# Altium schematic symbol library ScaledModelBoard.SchLib: 15 symbols
Pins are listed as number, name and electrical type; pins without a type are passive.

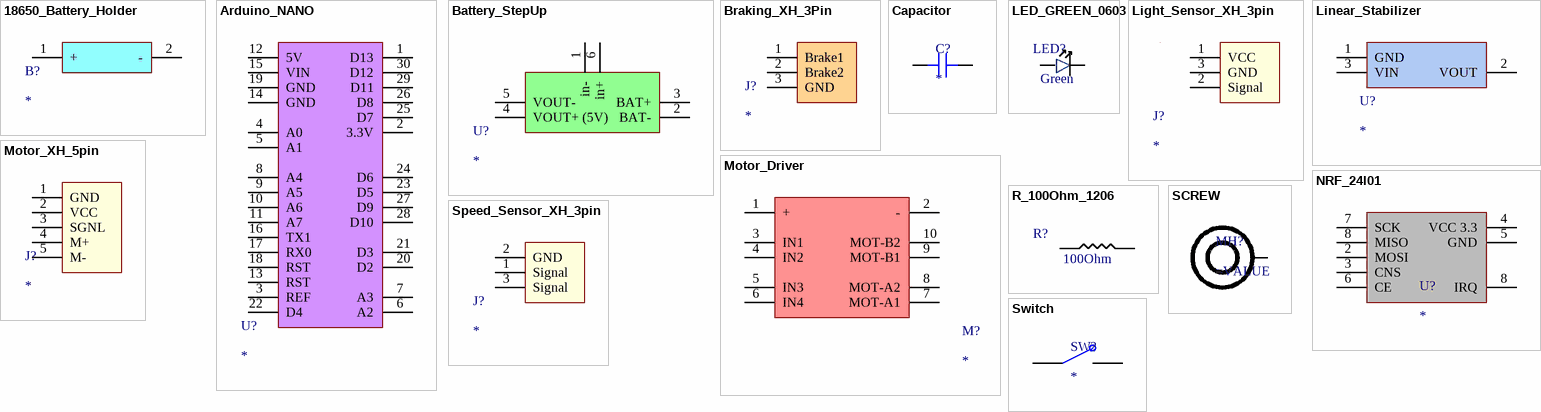
[diagram p0: symbols 18650_Battery_Holder to Switch]

## 18650_Battery_Holder
designator B?
footprint 18650
pins: 1 +, 2 -

## Arduino_NANO
designator U?
footprint MODULE_ABX00028
pins: 1 D13, 2 3.3V, 3 REF, 4 A0, 5 A1, 6 A2, 7 A3, 8 A4, 9 A5, 10 A6, 11 A7, 12 5V, 13 RST, 14 GND, 15 VIN, 16 TX1, 17 RX0, 18 RST, 19 GND, 20 D2, 21 D3, 22 D4, 23 D5, 24 D6, 25 D7, 26 D8, 27 D9, 28 D10, 29 D11, 30 D12

## Battery_StepUp
designator U?
footprint DC/DC
pins: 1 in-, 2 BAT-, 3 BAT+, 4 VOUT+ (5V), 5 VOUT-, 6 in+

## Braking_XH_3Pin
designator J?
footprint JST XH B3B-XH-A
pins: 1 Brake1, 2 Brake2, 3 GND

## Capacitor
designator C?
SMT Capacitor; Value: *
footprint CAP 0603 (Chip Resistor, 2-Leads, Body 1.60x0.80mm)
footprint CAP 1206 (Chip Resistor, 2-Leads, Body 1.60x0.80mm)
pins: 1, 2

## LED_GREEN_0603
designator LED?, comment value Green  (hidden comment: 0603Gr)
LIGHT EMITTING DIODES (LED) GREEN 520~535NM 112~258MCD@20MA TOP VIEW 0603 ROHS; MFR Part #: 19-217/GHC-YR1S2/3T; Type: Basic; LCSC Part#: C72043
footprint LED_0603
pins: 1, 2

## Light_Sensor_XH_3pin
designator J?
footprint JST XH B3B-XH-A
pins: 1 VCC, 2 Signal, 3 GND

## Linear_Stabilizer
designator U?
footprint TO-220 (TO254P1035X444X2115-3N))
pins: 1 GND, 2 VOUT, 3 VIN

## Motor_Driver
designator M?
footprint Driver
pins: 1 +, 2 -, 3 IN1, 4 IN2, 5 IN3, 6 IN4, 7 MOT-A1, 8 MOT-A2, 9 MOT-B1, 10 MOT-B2

## Motor_XH_5pin
designator J?
footprint JST XH B5B-XH-A
pins: 1 GND, 2 VCC, 3 SGNL, 4 M+, 5 M-

## NRF_24l01
designator U?
footprint NRF24L01
pins: 2 MOSI, 3 CNS, 4 VCC 3.3, 5 GND, 6 CE, 7 SCK, 8 IRQ, 8 MISO

## R_100Ohm_1206
designator R?, comment 100Ohm
100Ω ±1% 0.25W ±100ppm/℃ 1206 Chip Resistor - Surface Mount RoHS; MFR Part #: 1206W4F1000T5E; LCSC Part#: C17901; Datasheet: https://datasheet.lcsc.com/lcsc/2206010145_UNI-ROYAL-Uniroyal-Elec-1206W4F1000T5E_C17901.pdf; Type: Basic; Value: 100Ohm
footprint RES 0603 (Chip Resistor, 2-Leads, Body 1.60x0.80mm)
pins: 1, 2

## SCREW
designator MH?
footprint SCREW_M3.0 (M3 Screw Close FIt)
pins: 1

## Speed_Sensor_XH_3pin
designator J?
footprint JST XH B3B-XH-A
pins: 1 Signal, 2 GND, 3 Signal

## Switch
designator SW?
footprint Switch
pins: 1, 2